# Altium schematic symbol library L7805ACD2T-TR.SchLib: 1 symbol
Pins are listed as number, name and electrical type; pins without a type are passive.

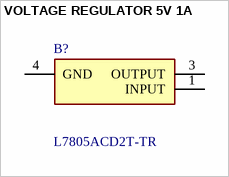
[diagram p0: symbol VOLTAGE REGULATOR 5V 1A]

## VOLTAGE REGULATOR 5V 1A
designator B?, comment L7805ACD2T-TR
Voltage Regulator 5V 1A D2PAK STMicroelectronics L78xx L7805ACD2T-TR, Single Linear Voltage Regulator, 1.5A 5 V, +/-2%, 3-Pin D2PAK; Mouser Part Number: 511-L7805ACD2T-TR; Mouser Price/Stock: https://www.mouser.co.uk/ProductDetail/STMicroelectronics/L7805ACD2T-TR?qs=Ctxo64yJVFuOLXlPPZdJUQ%3D%3D; Manufacturer_Name: STMicroelectronics; Manufacturer_Part_Number: L7805ACD2T-TR; Datasheet Link: http://www.st.com/web/en/resource/technical/document/datasheet/CD00000444.pdf
pins: 1 INPUT, 3 OUTPUT, 4 GND